# Altium footprint library MPT-02-01-01-x-RA-SD.PcbLib: 1 footprints
Each footprint in its own frame and in the unit in brackets; x right, y up, seen from the top. Pads: shape width x height; smd on the part's side, far side on the other; paste and mask are expansions set on the pad; w line width, h text height; cw(c..) or ccw(c..) is an arc to the next point about the centre after c.
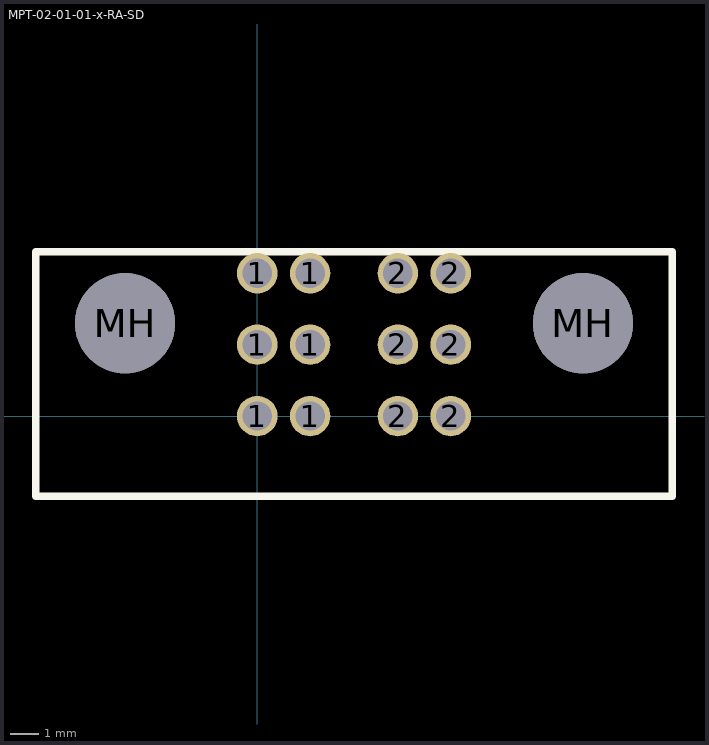
[diagram p0: the footprint, top view; thin cyan lines are the x and y axes]

## MPT-02-01-01-x-RA-SD [mm]
pads (14):
  round 1.44 hole 1.04: 1(0,0) 1(0,2.54) 1(0,5.08) 1(1.88,0) 1(1.88,2.54) 1(1.88,5.08) 2(5,0) 2(5,2.54) 2(5,5.08) 2(6.88,0) 2(6.88,2.54) 2(6.88,5.08)
  round 3.56 hole 3.56 unplated: MH(-4.7,3.3) MH(11.58,3.3)
Top Overlay:
  lines w0.254: -7.875,-2.85 14.755,-2.85 14.755,5.84 -7.875,5.84 -7.875,-2.85
3D body: height 10.81, standoff -2.7, extent -7.874,-8.969 14.754,5.839